# Altium schematic symbol library Schlib1.SchLib: 3 symbols
Pins are listed as number, name and electrical type; pins without a type are passive.

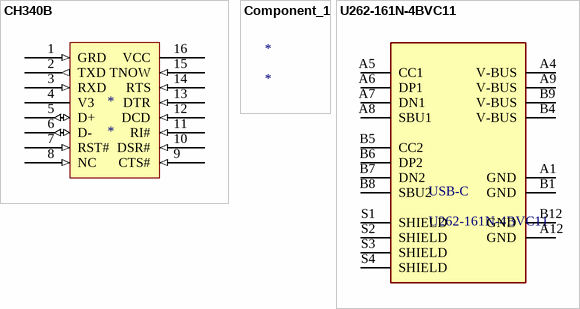
[diagram p0: symbols CH340B to U262-161N-4BVC11]

## CH340B
designator *
- USB 2.0 Transceiver 2Mbps SOP-16_150mil USB ICs ROHS; ComponentLink1Description: Datasheet; ComponentLink1URL: https://www.mpja.com/download/35227cpdata.pdf
footprint CH340B (- USB 2.0 Transceiver 2Mbps SOP-16_150mil USB ICs ROHS)
pins: 1 GRD (in), 2 TXD (out), 3 RXD (in), 4 V3 (power), 5 D+ (io), 6 D- (io), 7 RST# (in), 8 NC (in), 9 CTS# (in), 10 DSR# (in), 11 RI# (in), 12 DCD (in), 13 DTR (in), 14 RTS (in), 15 TNOW (in), 16 VCC (power)

## Component_1
designator *

## U262-161N-4BVC11
designator USB-C
USB - Type C Female 16 SMT USB Connectors RoHS; ComponentLink1Description: datasheet; ComponentLink1URL: https://datasheet.lcsc.com/szlcsc/2002271811_XKB-Connectivity-U262-161N-4BVC11_C319148.pdf; ComponentLink2Description: LCSC Link; ComponentLink2URL: https://lcsc.com/product-detail/USB-Connectors_XKB-Connectivity-U262-161N-4BVC11_C319148.html
footprint U262-161N-4BVC11 (USB-C)
pins: A1 GND (power), A4 V-BUS (power), A5 CC1 (power), A6 DP1 (power), A7 DN1 (power), A8 SBU1 (power), A9 V-BUS (power), A12 GND (power), B1 GND (power), B4 V-BUS (power), B5 CC2 (power), B6 DP2 (power), B7 DN2 (power), B8 SBU2 (power), B9 V-BUS (power), B12 GND (power), S1 SHIELD, S2 SHIELD, S3 SHIELD, S4 SHIELD